# Altium schematic symbol library SCH - CONNECTORS - MOLEX 2086581001.Schlib: 1 symbol
Pins are listed as number, name and electrical type; pins without a type are passive.

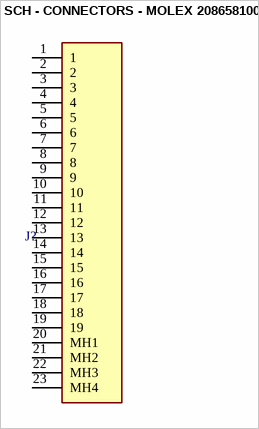
[diagram p0: symbol SCH - CONNECTORS - MOLEX 2086581001]

## SCH - CONNECTORS - MOLEX 2086581001
designator J?
footprint 2086581001
pins: 1, 2, 3, 4, 5, 6, 7, 8, 9, 10, 11, 12, 13, 14, 15, 16, 17, 18, 19, 20 MH1, 21 MH2, 22 MH3, 23 MH4